# Altium schematic symbol library MLX90614ESF-DCH-000-TU.SchLib: 1 symbol
Pins are listed as number, name and electrical type; pins without a type are passive.

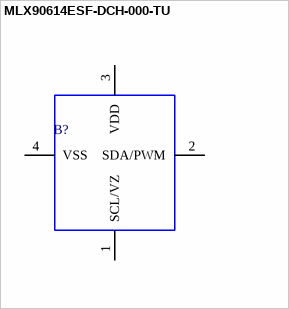
[diagram p0: symbol MLX90614ESF-DCH-000-TU]

## MLX90614ESF-DCH-000-TU
designator B?
Board Mount Temperature Sensors single pixel, 3V, medical acc., 10deg FOV, grad comp; Manufacturer_Name: Melexis; Geometry.Height: 8.88mm; Manufacturer_Part_Number: MLX90614ESF-DCH-000-TU; Mouser Part Number: 482-90614ESFDCH000TU; Mouser Price/Stock: https://www.mouser.co.uk/ProductDetail/Melexis/MLX90614ESF-DCH-000-TU?qs=KuGPmAKtFKWDHgaDo0G%252Bbg%3D%3D; Arrow Part Number: *; Arrow Price/Stock: *; Mouser Testing Part Number: *; Mouser Testing Price/Stock: *; Datasheet Link: https://www.melexis.com/-/media/files/documents/datasheets/mlx90614-datasheet-melexis.pdf
footprint MLX90614ESFDCH000TU
pins: 1 SCL/VZ, 2 SDA/PWM, 3 VDD, 4 VSS